# Altium footprint library SSwitch.PcbLib: 1 footprints
Each footprint in its own frame and in the unit in brackets; x right, y up, seen from the top. Pads: shape width x height; smd on the part's side, far side on the other; paste and mask are expansions set on the pad; w line width, h text height; cw(c..) or ccw(c..) is an arc to the next point about the centre after c.
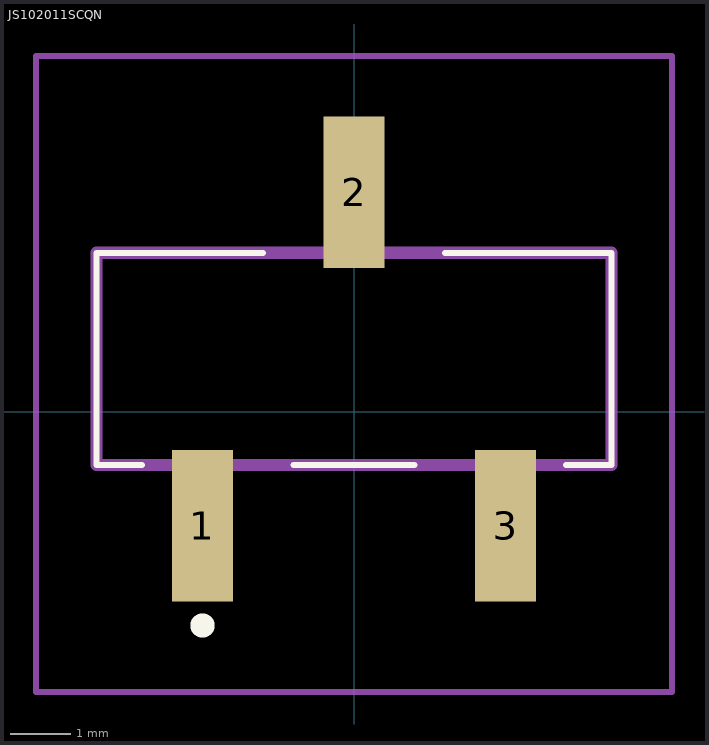
[diagram p0: the footprint, top view; thin cyan lines are the x and y axes]

## JS102011SCQN [mm]
pads (3):
  rect 1x2.5 smd: 1(-2.5,-1.875) 2(0,3.625) 3(2.5,-1.875)
Top Overlay:
  lines w0.1: -3.5,-0.875 -4.25,-0.875 -4.25,2.625 -1.5,2.625 ; -1,-0.875 1,-0.875 ; 1.5,2.625 4.25,2.625 4.25,-0.875 3.5,-0.875
  lines w0.2: -2.6,-3.525 cw(c-2.5,-3.525) -2.4,-3.525 cw(c-2.5,-3.525) -2.6,-3.525
Mechanical 13:
  lines w0.2: -4.25,-0.875 4.25,-0.875 4.25,2.625 -4.25,2.625 -4.25,-0.875
Mechanical 15:
  lines w0.1: -5.25,-4.625 5.25,-4.625 5.25,5.875 -5.25,5.875 -5.25,-4.625
3D body "JS102011SCQN.stp": height 5.5, standoff 0.01, extent -4.25,-2.87 4.25,4.63